# Altium footprint library TO-263-5.PcbLib: 1 footprints
Each footprint in its own frame and in the unit in brackets; x right, y up, seen from the top. Pads: shape width x height; smd on the part's side, far side on the other; paste and mask are expansions set on the pad; w line width, h text height; cw(c..) or ccw(c..) is an arc to the next point about the centre after c.
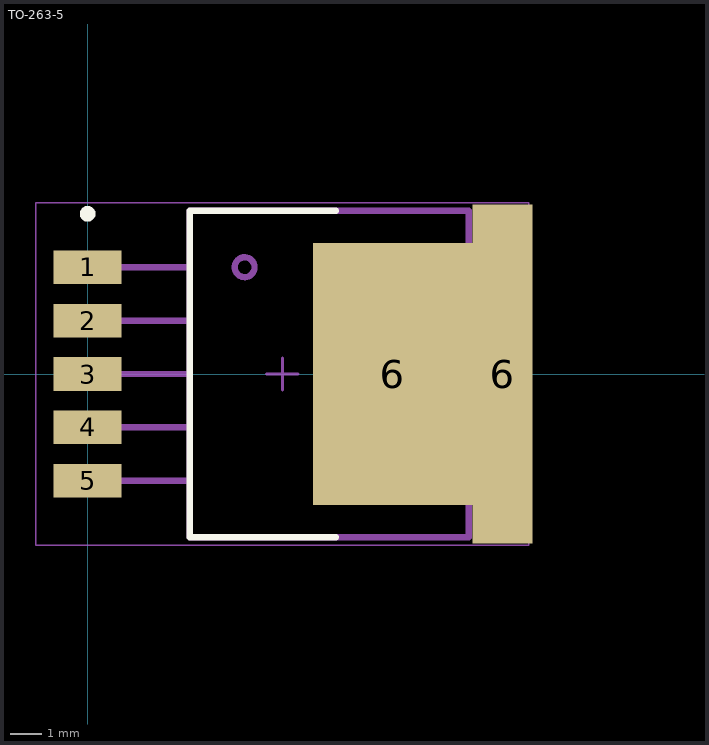
[diagram p0: the footprint, top view; thin cyan lines are the x and y axes]

## TO-263-5 [mm]
height 4.72
pads (7):
  rect 2.16x1.07 smd: 1(0,3.4) 2(0,1.7) 3(0,0) 4(0,-1.7) 5(0,-3.4)
  rect 5.08x8.33 smd: 6(9.72,0)
  rect 1.91x10.8 smd: 6(13.215,0)
Top Overlay:
  circle w0.25: c0,5.1 r0.125
  lines w0.2: 7.91,-5.2 3.25,-5.2 3.25,5.2 7.91,5.2
Mechanical 7:
  circle w0.2: c5,3.4 r0.316
  lines w0.2: -0.092,-3.4 3.25,-3.4 ; -0.092,-1.7 3.25,-1.7 ; -0.092,0 3.25,0 ; -0.092,1.7 3.25,1.7 ; -0.092,3.4 3.25,3.4 ; 3.25,-5.2 3.25,5.2 12.14,5.2 12.14,-5.2 3.25,-5.2
Mechanical 15:
  lines w0.05: -1.65,-5.45 -1.65,5.45 14.05,5.45 14.05,-5.45 -1.65,-5.45
  lines w0.1: 5.7,0 6.7,0 ; 6.2,-0.5 6.2,0.5
3D body "KTT0005B.stp": height 4.57, standoff -0.15, extent -0.73,-5.08 13.57,5.08